# Altium footprint library INDPM8180X540N.PcbLib: 1 footprints
Each footprint in its own frame and in the unit in brackets; x right, y up, seen from the top. Pads: shape width x height; smd on the part's side, far side on the other; paste and mask are expansions set on the pad; w line width, h text height; cw(c..) or ccw(c..) is an arc to the next point about the centre after c.
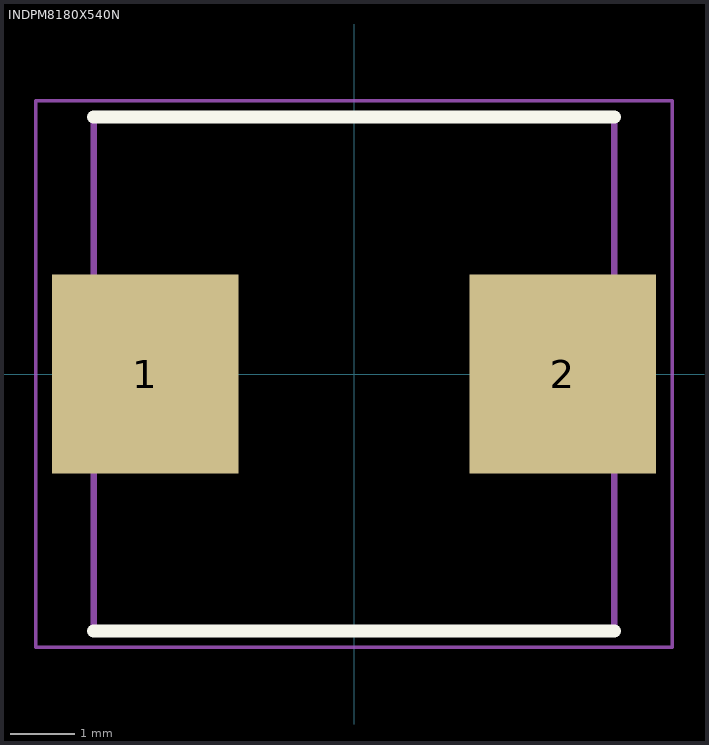
[diagram p0: the footprint, top view; thin cyan lines are the x and y axes]

## INDPM8180X540N [mm]
pads (2):
  rect 2.9x3.1 smd: 1(-3.25,0) 2(3.25,0)
Top Overlay:
  lines w0.2: -4.05,-4 4.05,-4 ; -4.05,4 4.05,4
Mechanical 15:
  lines w0.1: -4.05,-4 4.05,-4 4.05,4 -4.05,4 -4.05,-4
Mechanical 20:
  lines w0.05: -4.95,-4.25 4.95,-4.25 4.95,4.25 -4.95,4.25 -4.95,-4.25